# Altium schematic symbol library Ports1.27.SchLib: 3 symbols
Pins are listed as number, name and electrical type; pins without a type are passive.

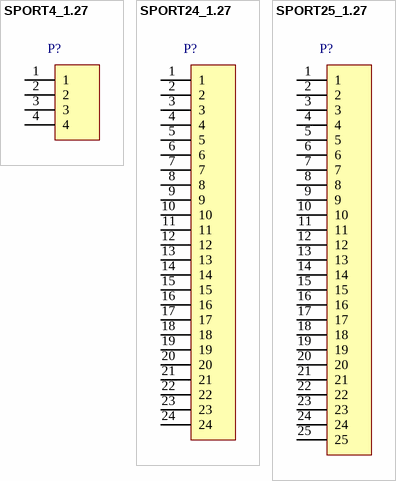
[diagram p0: symbols SPORT4_1.27 to SPORT25_1.27]

## SPORT4_1.27
designator P?, comment Single 4 pin port  (value not drawn)
footprint 127S1X4 (Footprint not found)
pins: 1, 2, 3, 4 (power)

## SPORT24_1.27
designator P?, comment Single 24 pin port  (value not drawn)
footprint 127S1X24 (Footprint not found)
pins: 1, 2, 3, 4, 5, 6, 7, 8, 9, 10, 11, 12, 13, 14, 15, 16, 17, 18, 19, 20, 21, 22, 23, 24

## SPORT25_1.27
designator P?, comment Single 25 pin port  (value not drawn)
footprint 127S1X25
pins: 1, 2, 3, 4, 5, 6, 7, 8, 9, 10, 11, 12, 13, 14, 15, 16, 17, 18, 19, 20, 21, 22, 23, 24, 25